# Altium integrated library WE-FB 3751 Flyback Transformer for LT3751.IntLib: 4 symbols
Pins are listed as number, name and electrical type; pins without a type are passive.

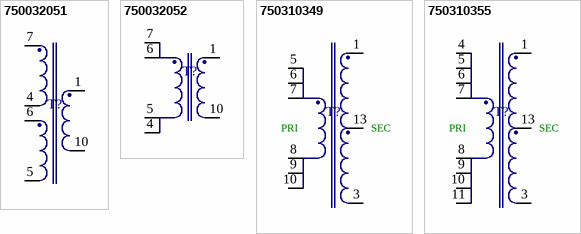
[diagram p0: symbols 750032051 to 750310355]

## 750032051
designator T?
Flyback Transformer for LT3751 WE-FB 3751 , Ui=18-30V; PartNumber: 750032051; Ui: 18-30V; PackageReference: EFD20; ComponentLink1Description: Manufacturer URL; ComponentLink1URL: http://www.we-online.com; ComponentLink2Description: Datasheet; ComponentLink2URL: http://katalog.we-online.de/pbs/datasheet/750032051.pdf
footprint EFD20 (SMD, 10-Leads, Body 22.0x20.0mm (max), Pitch 3.75mm, IPC Medium Density)
pins: 1, 4, 5, 6, 7, 10

## 750032052
designator T?
Flyback Transformer for LT3751 WE-FB 3751 , Ui=18-30V; PartNumber: 750032052; Ui: 18-30V; PackageReference: EFD20; ComponentLink1Description: Manufacturer URL; ComponentLink1URL: http://www.we-online.com; ComponentLink2Description: Datasheet; ComponentLink2URL: http://katalog.we-online.de/pbs/datasheet/750032052.pdf
footprint EFD20 (SMD, 10-Leads, Body 22.0x20.0mm (max), Pitch 3.75mm, IPC Medium Density)
pins: 1, 4, 5, 6, 7, 10

## 750310349
designator T?
Flyback Transformer for LT3751 WE-FB 3751 , Ui=18-30V; PartNumber: 750310349; Ui: 18-30V; PackageReference: EE35/18/10; ComponentLink1Description: Manufacturer URL; ComponentLink1URL: http://www.we-online.com; ComponentLink2Description: Datasheet; ComponentLink2URL: http://katalog.we-online.de/pbs/datasheet/750310349.pdf
footprint EE35/18/10 (THT, 14-Leads, Body 42.0x36.5.0mm (max), Pitch 4.5mm)
pins: 1, 3, 5, 6, 7, 8, 9, 10, 13
text: PRI; SEC

## 750310355
designator T?
Flyback Transformer for LT3751 WE-FB 3751 , Ui=18-30V; PartNumber: 750310355; Ui: 18-30V; PackageReference: EE35/18/10; ComponentLink1Description: Manufacturer URL; ComponentLink1URL: http://www.we-online.com; ComponentLink2Description: Datasheet; ComponentLink2URL: http://katalog.we-online.de/pbs/datasheet/750310355.pdf
footprint EE35/18/10 (THT, 14-Leads, Body 42.0x36.5.0mm (max), Pitch 4.5mm)
pins: 1, 3, 4, 5, 6, 7, 8, 9, 10, 11, 13
text: PRI; SEC